# Altium schematic symbol library L.SchLib: 19 symbols
Pins are listed as number, name and electrical type; pins without a type are passive.

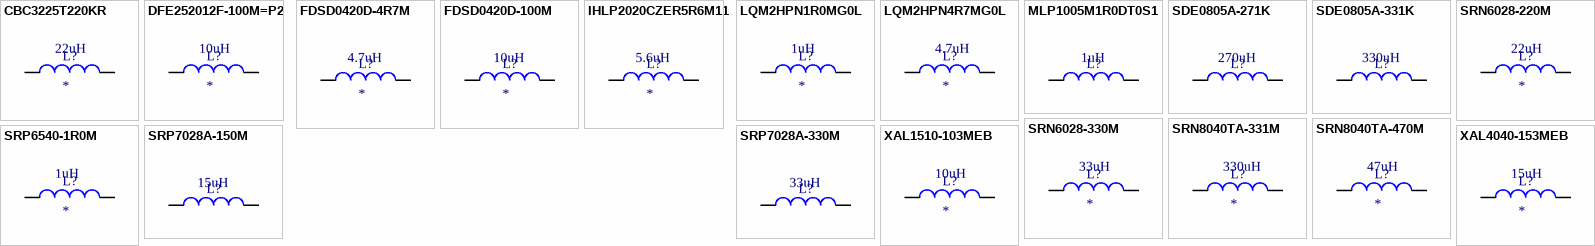
[diagram p0: symbols CBC3225T220KR to XAL4040-153MEB]

## CBC3225T220KR
designator L?  value 22uH
Fixed Inductors 1210 22uH 351mOhms +/-10% 620mA; Isat: 0.62A
footprint IND 1210 (Chip Inductor Body 3.2 x 2.5 mm (LxW typ))
pins: 1, 2

## DFE252012F-100M=P2
designator L?  value 10uH
Fixed Inductors 2502 10uH 20% 1.4A; Isat: 1.4A
footprint IND 1008
pins: 1, 2

## FDSD0420D-4R7M
designator L?  value 4.7uH
Fixed Inductors 4.7uH 83mOhms 3.6A 4.2x4.2mm 20%; Isat: 3.6A
footprint MuRata FDSD0420D (Inductor)
pins: 1, 2

## FDSD0420D-100M
designator L?  value 10uH
Fixed Inductors 10uH 200mOhms 2.5A 4.2x4.2mm 20%; Isat: 2.5A
footprint MuRata FDSD0420D (Inductor)
pins: 1, 2

## IHLP2020CZER5R6M11
designator L?  value 5.6uH
Fixed Inductors 5.6uH 20%
footprint Vishay IHLP (Low Profile, High Current IHLP® Inductors)
pins: 1, 2

## LQM2HPN1R0MG0L
designator L?  value 1uH
Fixed Inductors 1008 1.0uH 20% 1.5A
footprint IND 1008
pins: 1, 2

## LQM2HPN4R7MG0L
designator L?  value 4.7uH
Fixed Inductors 1008 4.7uH 20% 1.1A
footprint IND 1008
pins: 1, 2

## MLP1005M1R0DT0S1
designator L?  value 1uH  (hidden comment: *)
Fixed Inductors 1.0uH 689mohms 500mA PWR Multi Ferrite
footprint IND 0402 (Chip Inductor, Body 1.1 x 0.5 mm (LxW typ))
pins: 1, 2

## SDE0805A-271K
designator L?  value 270uH  (hidden comment: *)
Fixed Inductors 270uH 10% SMD 0805 AEC-Q200; Isat: 4A
footprint SDE0805A
pins: 1, 2

## SDE0805A-331K
designator L?  value 330uH  (hidden comment: *)
Fixed Inductors 330uH 10% SMD 0805 AEC-Q200; Isat: 400mA
footprint SDE0805A
pins: 1, 2

## SRN6028-220M
designator L?  value 22uH
Fixed Inductors 22uH; Isat: 1.1A
footprint SRN6028
pins: 1, 2

## SRN6028-330M
designator L?  value 33uH
Fixed Inductors 33uH; Isat: 1.1A
footprint SRN6028
pins: 1, 2

## SRN8040TA-331M
designator L?  value 330uH
Fixed Inductors 330uH 20% 0.66A non-shd; Isat: .6A
footprint SRN8040TA
pins: 1, 2

## SRN8040TA-470M
designator L?  value 47uH
Fixed Inductors 47uH 20% 1.7A non-shdSMD AEC-Q200; Isat: 2A
footprint SRN8040TA
pins: 1, 2

## SRP6540-1R0M
designator L?  value 1uH
Fixed Inductors 1uH; Isat: 12A
footprint SRP6540
pins: 1, 2

## SRP7028A-150M
designator L?  value 15uH  (hidden comment: *)
15uH Shielded Power Inductor; Isat: 4A
footprint Bourns SRP7028A (Shielded Power Inductors)
pins: 1, 2

## SRP7028A-330M
designator L?  value 33uH  (hidden comment: *)
33uH Shielded Power Inductor; Isat: 2.5A
footprint Bourns SRP7028A (Shielded Power Inductors)
pins: 1, 2

## XAL1510-103MEB
designator L?  value 10uH
Fixed Inductors 10uH 20% 22A 9mOhms AEC-Q200; Isat: 26.3A
footprint XAL1510 (Footprint not found)
pins: 1, 2

## XAL4040-153MEB
designator L?  value 15uH
Fixed Inductors XAL4040 AEC-Q200 15 uH 20% 2.8A; Isat: 2.8A
footprint Coilcraft XAL4040 (Shielded Power Inductors – XAL40XX)
pins: 1, 2